# EAGLE library part MCP6024_TSSOP8 (library Tobias)
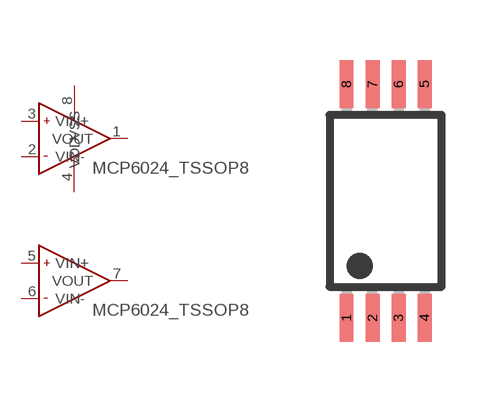
[diagram p1: symbol with the pads of TSSOP8; footprint TSSOP8]

Designator prefix -; gates G$1=MCP6024 G$2=MCP6024 G$3=POWER

## MCP6024_TSSOP8  [TSSOP8]
1  G$1:VOUT  out
2  G$1:VIN-  in
3  G$1:VIN+  in
4  G$3:VSS  pwr
5  G$2:VIN+  in
6  G$2:VIN-  in
7  G$2:VOUT  out
8  G$3:VDD  pwr

## Footprint TSSOP8 (pad centres in mm)
Thin Shrink Small Outline Plastic 8 3 x 4.4 mm
smd 0.35 x 1.2: 1 -0.975,-2.925; 2 -0.325,-2.925; 3 0.325,-2.925; 4 0.975,-2.925; 5 0.975,2.925; 6 0.325,2.925; 7 -0.325,2.925; 8 -0.975,2.925